# Altium integrated library ABLS-16.000MHZ-20-L-4-Q-T_1.IntLib: 1 symbol
Pins are listed as number, name and electrical type; pins without a type are passive.

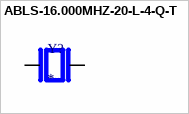
[diagram p0: symbol ABLS-16.000MHZ-20-L-4-Q-T]

## ABLS-16.000MHZ-20-L-4-Q-T
designator Y?
Crystal 16MHz Â±30ppm (Tol) Â±100ppm (Stability) 20pF FUND 40Ohm 2-Pin HC-49/US SMD T/R; MF: Abracon Corporation; MP: ABLS-16.000MHZ-20-L-4-Q-T; Check_prices: https://www.snapeda.com/parts/ABLS-16.000MHZ-20-L-4-Q-T/Abracon/view-part/?ref=eda; Value: *; SnapEDA_Link: https://www.snapeda.com/parts/ABLS-16.000MHZ-20-L-4-Q-T/Abracon/view-part/?ref=snap; Availability: In Stock; Package: None; Purchase-URL: https://pricing.snapeda.com/search/part/ABLS-16.000MHZ-20-L-4-Q-T/?ref=eda; Price: None
footprint XTAL_ABLS-16.000MHZ-20-L-4-Q-T
pins: 1, 2